# Altium footprint library AB26T.PcbLib: 1 footprints
Each footprint in its own frame and in the unit in brackets; x right, y up, seen from the top. Pads: shape width x height; smd on the part's side, far side on the other; paste and mask are expansions set on the pad; w line width, h text height; cw(c..) or ccw(c..) is an arc to the next point about the centre after c.
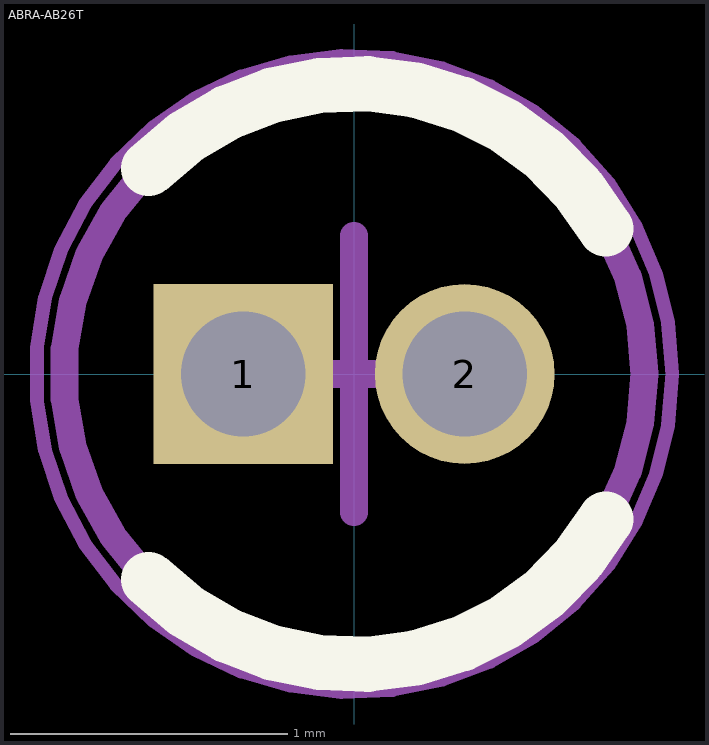
[diagram p0: the footprint, top view; thin cyan lines are the x and y axes]

## ABRA-AB26T [mm] "THD, 2-Leads, Dia 2.1mm, Body Length 6.2mm"
height 6.2
pads (2):
  rect 0.65x0.65 hole 0.45: 1(-0.4,0)
  round 0.65 hole 0.45: 2(0.4,0)
Top Overlay:
  lines w0.2: -0.742,-0.742 ccw(c0,0) 0.909,-0.525 ; -0.742,0.742 cw(c0,0) 0.909,0.525
Mechanical 13:
  circle w0.1: c0,0 r1.05
Mechanical 15:
  circle w0.05: c0,0 r1.15
  lines w0.1: -0.5,0 0.5,0 ; 0,-0.5 0,0.5
3D body "AB26T.STEP": height 6.2, standoff -6, extent -1.05,-1.05 1.05,1.06